# Altium schematic symbol library POT.SchLib: 1 symbol
Pins are listed as number, name and electrical type; pins without a type are passive.

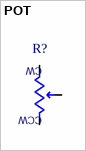
[diagram p0: symbol POT]

## POT
designator R?  (value not drawn)
pins: 1, 2, 3
text: CW; CCW